# EAGLE library part PCM1774 (library TI)
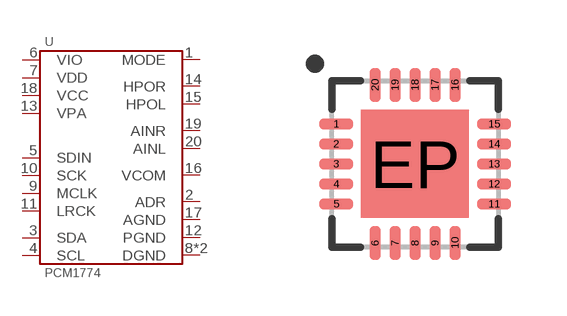
[diagram p24: symbol with the pads of QFN-20-4X4; footprint QFN-20-4X4]

Designator prefix U

## PCM1774RGPT  [QFN-20-4X4]
1  MODE
2  ADR
3  SDA
4  SCL
5  SDIN
6  VIO
7  VDD
8  DGND
9  MCLK
10  SCK
11  LRCK
12  PGND
13  VPA
14  HPOR
15  HPOL
16  VCOM
17  AGND
18  VCC
19  AINR
20  AINL
EP  DGND

## Footprint QFN-20-4X4 (pad centres in mm)
smd 0.85 x 0.28: 1 -1.975,1; 2 -1.975,0.5; 3 -1.975,0; 4 -1.975,-0.5; 5 -1.975,-1; 11 1.975,-1; 12 1.975,-0.5; 13 1.975,0; 14 1.975,0.5; 15 1.975,1
smd 0.28 x 0.85: 6 -1,-1.975; 7 -0.5,-1.975; 8 0,-1.975; 9 0.5,-1.975; 10 1,-1.975; 16 1,1.975; 17 0.5,1.975; 18 0,1.975; 19 -0.5,1.975; 20 -1,1.975
smd 2.7 x 2.7: EP 0,0